# Altium schematic symbol library Diode.SchLib: 9 symbols
Pins are listed as number, name and electrical type; pins without a type are passive.

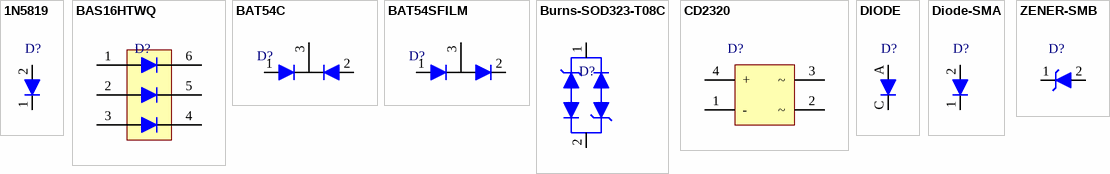
[diagram p0: symbols 1N5819 to ZENER-SMB]

## 1N5819
designator D?  (value not drawn)
=description
pins: 1, 2

## BAS16HTWQ
designator D?  (value not drawn)
pins: 1 A1, 2 A2, 3 A3, 4 C3, 5 C2, 6 C1

## BAT54C
designator D?  (value not drawn)
=description
pins: 1 A1, 2 C2, 3 C1A2

## BAT54SFILM
designator D?  (value not drawn)
=description
pins: 1 A1, 2 C2, 3 C1A2

## Burns-SOD323-T08C
designator D?  (value not drawn)
=description
pins: 1, 2

## CD2320
designator D?  (value not drawn)
=description
pins: 1 - (power), 2 ~ (power), 3 ~ (power), 4 + (power)

## DIODE
designator D?  (value not drawn)
=description
pins: A, C

## Diode-SMA
designator D?  (value not drawn)
=description
pins: 1, 2

## ZENER-SMB
designator D?
=description
pins: 1 K, 2 A